# Altium footprint library QFN65P800X800X100_HS-45N.PcbLib: 1 footprints
Each footprint in its own frame and in the unit in brackets; x right, y up, seen from the top. Pads: shape width x height; smd on the part's side, far side on the other; paste and mask are expansions set on the pad; w line width, h text height; cw(c..) or ccw(c..) is an arc to the next point about the centre after c.
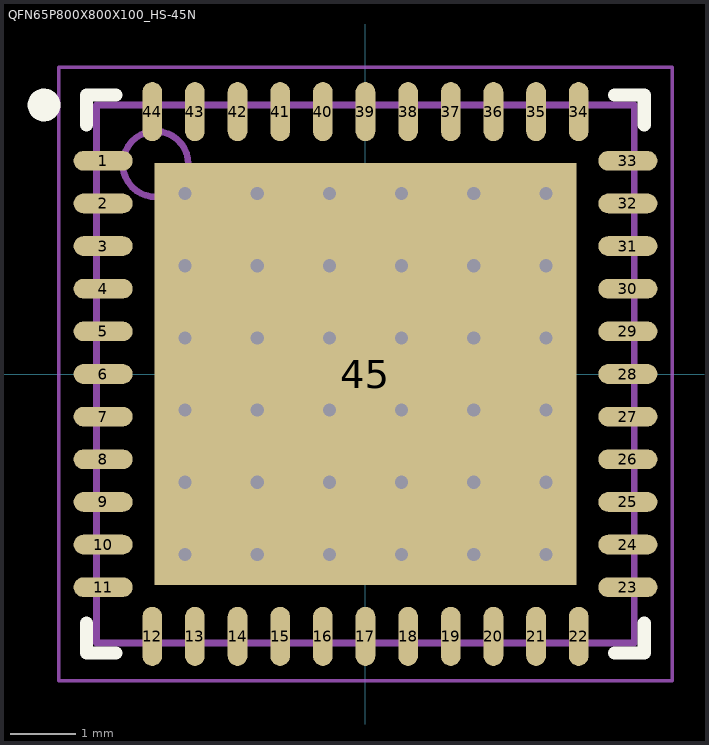
[diagram p0: the footprint, top view; thin cyan lines are the x and y axes]

## QFN65P800X800X100_HS-45N [mm] "QFN, 44-Leads, Body 8.00x8.00mm, Pitch 0.65mm, Thermal Pad 6.43x6.43mm, IPC Medium Density"
height 1
pads (45):
  oval 0.9x0.3 smd: 1(-4,3.25) 2(-4,2.6) 3(-4,1.95) 4(-4,1.3) 5(-4,0.65) 6(-4,0) 7(-4,-0.65) 8(-4,-1.3) 9(-4,-1.95) 10(-4,-2.6) 11(-4,-3.25) 23(4,-3.25) 24(4,-2.6) 25(4,-1.95) 26(4,-1.3) 27(4,-0.65) 28(4,0) 29(4,0.65) 30(4,1.3) 31(4,1.95) 32(4,2.6) 33(4,3.25)
  oval 0.3x0.9 smd: 12(-3.25,-4) 13(-2.6,-4) 14(-1.95,-4) 15(-1.3,-4) 16(-0.65,-4) 17(0,-4) 18(0.65,-4) 19(1.3,-4) 20(1.95,-4) 21(2.6,-4) 22(3.25,-4) 34(3.25,4) 35(2.6,4) 36(1.95,4) 37(1.3,4) 38(0.65,4) 39(0,4) 40(-0.65,4) 41(-1.3,4) 42(-1.95,4) 43(-2.6,4) 44(-3.25,4)
  rect 6.43x6.43 smd: 45(0,0)
via 2.75,-2.75 diameter 0.5 hole 0.2
via 1.65,-2.75 diameter 0.5 hole 0.2
via 0.55,-2.75 diameter 0.5 hole 0.2
via -0.55,-2.75 diameter 0.5 hole 0.2
via -1.65,-2.75 diameter 0.5 hole 0.2
via -2.75,-2.75 diameter 0.5 hole 0.2
via 2.75,-1.65 diameter 0.5 hole 0.2
via 1.65,-1.65 diameter 0.5 hole 0.2
via 0.55,-1.65 diameter 0.5 hole 0.2
via -0.55,-1.65 diameter 0.5 hole 0.2
via -1.65,-1.65 diameter 0.5 hole 0.2
via -2.75,-1.65 diameter 0.5 hole 0.2
via 2.75,-0.55 diameter 0.5 hole 0.2
via 1.65,-0.55 diameter 0.5 hole 0.2
via 0.55,-0.55 diameter 0.5 hole 0.2
via -0.55,-0.55 diameter 0.5 hole 0.2
via -1.65,-0.55 diameter 0.5 hole 0.2
via -2.75,-0.55 diameter 0.5 hole 0.2
via 2.75,0.55 diameter 0.5 hole 0.2
via 1.65,0.55 diameter 0.5 hole 0.2
via 0.55,0.55 diameter 0.5 hole 0.2
via -0.55,0.55 diameter 0.5 hole 0.2
via -1.65,0.55 diameter 0.5 hole 0.2
via -2.75,0.55 diameter 0.5 hole 0.2
via 2.75,1.65 diameter 0.5 hole 0.2
via 1.65,1.65 diameter 0.5 hole 0.2
via 0.55,1.65 diameter 0.5 hole 0.2
via -0.55,1.65 diameter 0.5 hole 0.2
via -1.65,1.65 diameter 0.5 hole 0.2
via -2.75,1.65 diameter 0.5 hole 0.2
via 2.75,2.75 diameter 0.5 hole 0.2
via 1.65,2.75 diameter 0.5 hole 0.2
via 0.55,2.75 diameter 0.5 hole 0.2
via -0.55,2.75 diameter 0.5 hole 0.2
via -1.65,2.75 diameter 0.5 hole 0.2
via -2.75,2.75 diameter 0.5 hole 0.2
Top Overlay:
  circle w0.25: c-4.9,4.1 r0.125
  lines w0.2: -4.25,-3.8 -4.25,-4.25 -3.8,-4.25 ; -4.25,3.8 -4.25,4.25 -3.8,4.25 ; 3.8,-4.25 4.25,-4.25 4.25,-3.8 ; 3.8,4.25 4.25,4.25 4.25,3.8
Mechanical 13:
  circle w0.1: c-3.2,3.2 r0.5
  lines w0.1: -4.1,-4.1 4.1,-4.1 4.1,4.1 -4.1,4.1 -4.1,-4.1
Mechanical 15:
  lines w0.05: -4.675,-4.675 4.675,-4.675 4.675,4.675 -4.675,4.675 -4.675,-4.675
  lines w0.1: -0.5,0 0.5,0 ; 0,-0.5 0,0.5
3D body: height 1.2, standoff -0.04, extent -4.05,-4.05 4.05,4.05